# EAGLE library part CONN:1X12-TYPE1 (library QuantumOptics)
Connector, 12-pin, PCB to wires, Hirose DF3A-12P-2DSA, 2mm. Mates with connector DF3-12S-2C and crimp pins DF3-2428SCFC. http://www.hirose.co.jp/cataloge_hp/e54300012.pdf
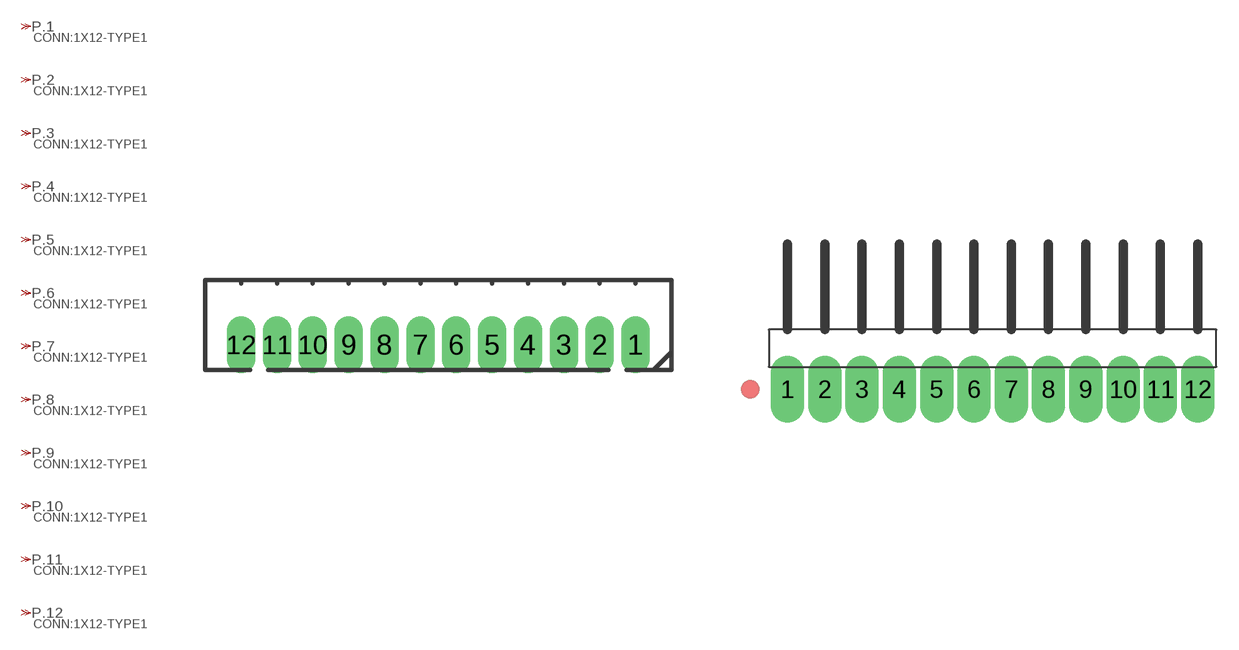
[diagram p124: symbol with the pads of CONN:1X12-TYPE1; footprints CONN:1X12-TYPE1, CONN:1X12-TYPE2]

Designator prefix P; gates .1=CONN:PIN-TYPE2 .2=CONN:PIN-TYPE2 .3=CONN:PIN-TYPE2 .4=CONN:PIN-TYPE2 .5=CONN:PIN-TYPE2 .6=CONN:PIN-TYPE2 .7=CONN:PIN-TYPE2 .8=CONN:PIN-TYPE2 .9=CONN:PIN-TYPE2 .10=CONN:PIN-TYPE2 .11=CONN:PIN-TYPE2 .12=CONN:PIN-TYPE2

## CONN:1X12-TYPE1  [CONN:1X12-TYPE1]
1  .1:P$1
2  .2:P$1
3  .3:P$1
4  .4:P$1
5  .5:P$1
6  .6:P$1
7  .7:P$1
8  .8:P$1
9  .9:P$1
10  .10:P$1
11  .11:P$1
12  .12:P$1

## CONN:1X12-TYPE1-SAMTEC_TSW  [CONN:1X12-TYPE2]
Pads as for CONN:1X12-TYPE1

## CONN:1X12-TYPE1-SAMTEC_SSW  [CONN:1X12-TYPE2A]
Pads as for CONN:1X12-TYPE1

## Footprint CONN:1X12-TYPE1 (pad centres in mm)
Connector, 12-pin, PCB to wires, Hirose DF3A-12P-2DSA, 2mm. Mates with connector DF3-10S-2C and crimp pins DF3-2428SCFC. http://www.hirose.co.jp/cataloge_hp/e54300012.pdf
drill 0.889 pad 1.6 long: 1 3,0; 2 1,0; 3 -1,0; 4 -3,0; 5 -5,0; 6 -7,0; 7 -9,0; 8 -11,0; 9 -13,0; 10 -15,0; 11 -17,0; 12 -19,0

## Footprint CONN:1X12-TYPE2 (pad centres in mm)
12-pin single row pin connector on 0.1" spacing, such as Samtec TSW-x, mates with SSW-x
drill 0.965 pad 2.286 long: 1 -13.97,0; 2 -11.43,0; 3 -8.89,0; 4 -6.35,0; 5 -3.81,0; 6 -1.27,0; 7 1.27,0; 8 3.81,0; 9 6.35,0; 10 8.89,0; 11 11.43,0; 12 13.97,0

## Footprint CONN:1X12-TYPE2A (pad centres in mm)
12-pin single row socket connector on 0.1" spacing, such as Samtec SSW-x, mates with TSW-x
drill 0.965 pad 2.286 long: 1 13.97,0; 2 11.43,0; 3 8.89,0; 4 6.35,0; 5 3.81,0; 6 1.27,0; 7 -1.27,0; 8 -3.81,0; 9 -6.35,0; 10 -8.89,0; 11 -11.43,0; 12 -13.97,0